# Altium footprint library PcbLib1.PcbLib: 15 footprints
Each footprint in its own frame and in the unit in brackets; x right, y up, seen from the top. Pads: shape width x height; smd on the part's side, far side on the other; paste and mask are expansions set on the pad; w line width, h text height; cw(c..) or ccw(c..) is an arc to the next point about the centre after c.
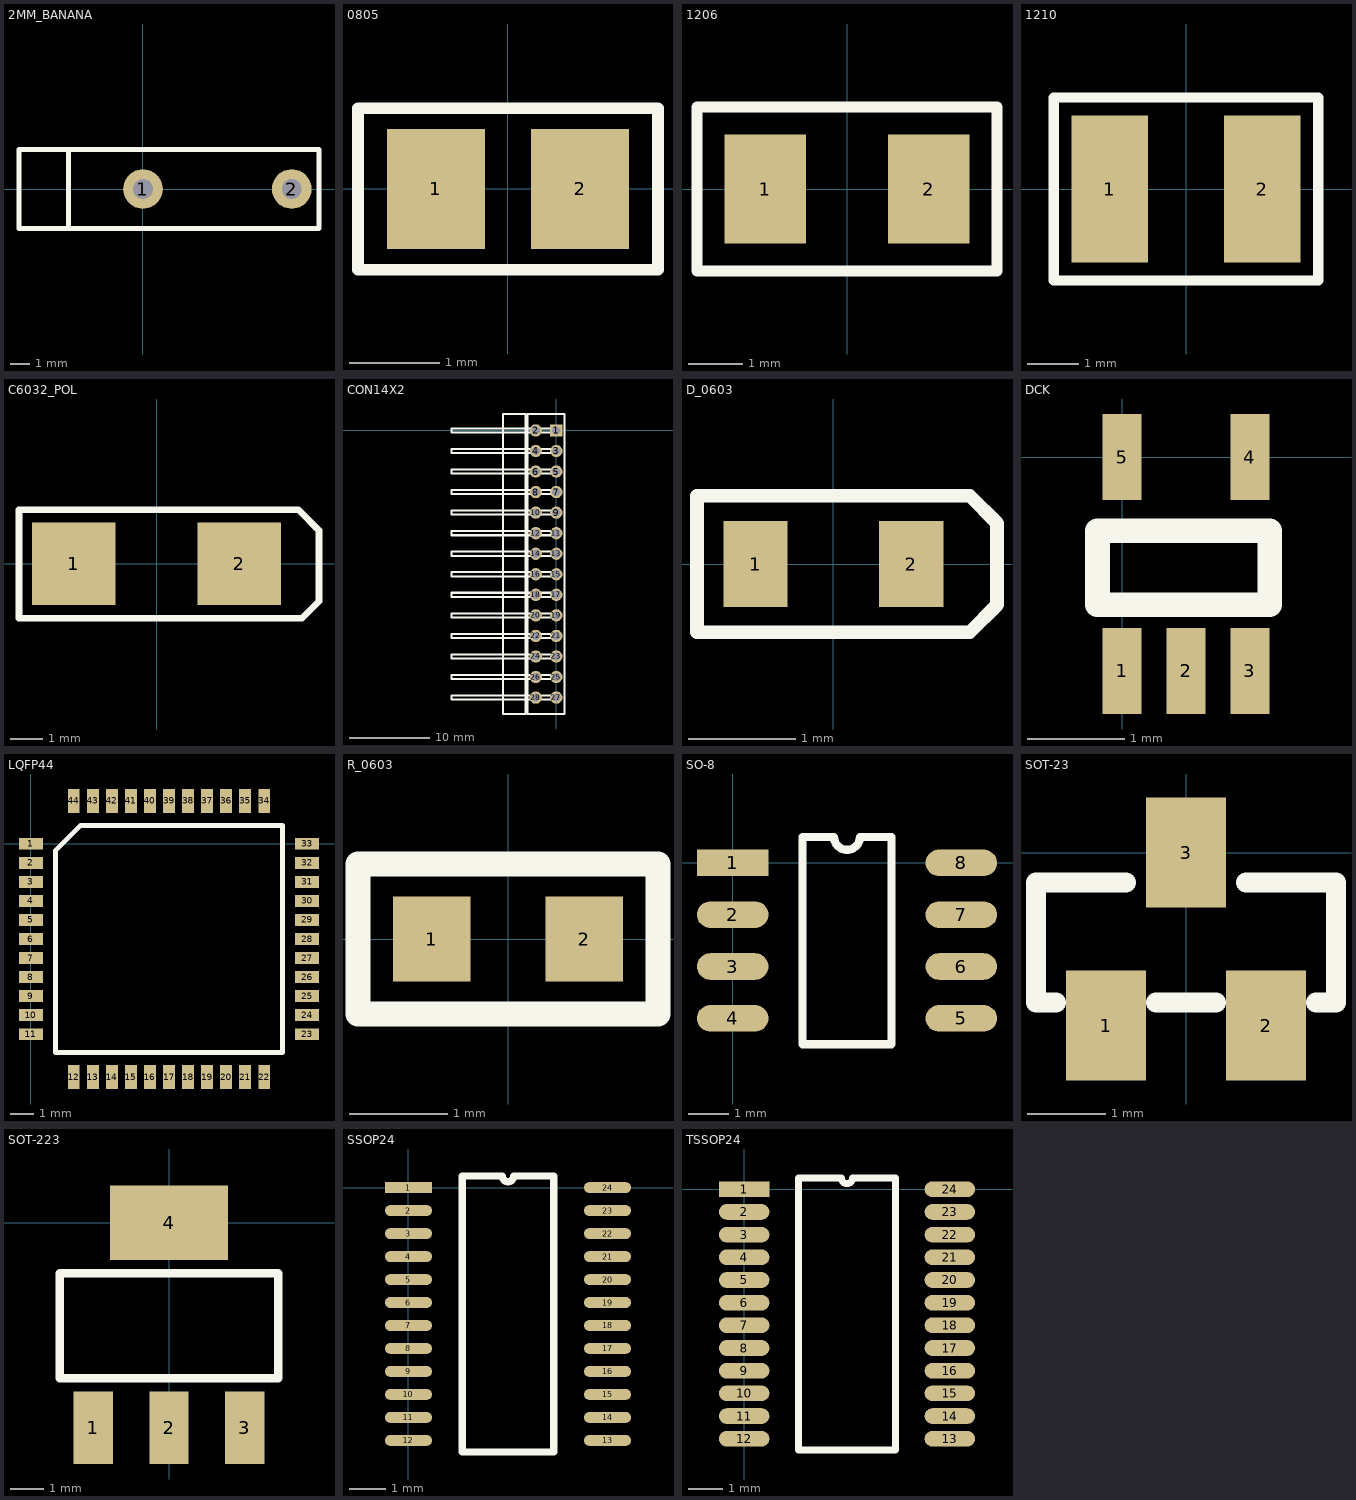
[diagram p0: the footprints below, top view; thin cyan lines are the x and y axes]

## 2MM_BANANA [mil]
pads (2):
  round 80 hole 40: 1(0,0) 2(300,0)
Top Overlay:
  lines w10: -150,-80 -150,80 ; -250,-80 -250,80 355,80 355,-80 -250,-80

## 0805 [mil]
pads (2):
  rect 42.5x52 smd: 1(-31.25,0) 2(31.25,0)
Top Overlay:
  lines w5: -65,-35 65,-35 65,35 -65,35 -65,-35

## 1206 [mm]
pads (2):
  rect 1.5x2 smd: 1(-1.5,0) 2(1.5,0)
Top Overlay:
  lines w0.2: -2.75,-1.5 2.75,-1.5 2.75,1.5 -2.75,1.5 -2.75,0 -2.75,-1.5

## 1210 [mm]
pads (2):
  rect 1.5x2.9 smd: 1(-1.5,0) 2(1.5,0)
Top Overlay:
  lines w0.2: -2.6,-1.8 -2.6,0 -2.6,1.8 2.6,1.8 2.6,-1.8 -2.6,-1.8

## C6032_POL [mm]
pads (2):
  rect 2.55x2.5 smd: 1(-2.525,0) 2(2.525,0)
Top Overlay:
  lines w0.2: -4.191,-1.667 4.429,-1.667 4.953,-1.143 4.953,1.016 4.318,1.651 -4.191,1.651 -4.191,0.351 -4.191,-1.667

## CON14X2 [mil]
pads (28):
  rect 60x60 hole 40: 1(0,0)
  round 60 hole 40: 2(-100,0) 3(0,-100) 4(-100,-100) 5(0,-200) 6(-100,-200) 7(0,-300) 8(-100,-300) 9(0,-400) 10(-100,-400) 11(0,-500) 12(-100,-500) 13(0,-600) 14(-100,-600) 15(0,-700) 16(-100,-700) 17(0,-800) 18(-100,-800) 19(0,-900) 20(-100,-900) 21(0,-1000) 22(-100,-1000) 23(0,-1100) 24(-100,-1100) 25(0,-1200) 26(-100,-1200) 27(0,-1300) 28(-100,-1300)
Top Overlay:
  lines w10: 5,-1290 -510,-1290 -510,-1310 15,-1310 ; 5,-1190 -510,-1190 -510,-1210 15,-1210 ; 5,-1090 -510,-1090 -510,-1110 15,-1110 ; 5,-990 -510,-990 -510,-1010 15,-1010 ; 5,-890 -510,-890 -510,-910 15,-910 ; 5,-790 -510,-790 -510,-810 15,-810 ; 5,-690 -510,-690 -510,-710 15,-710 ; 5,-590 -510,-590 -510,-610 15,-610 ; 5,-490 -510,-490 -510,-510 15,-510 ; 5,-390 -510,-390 -510,-410 15,-410 ; 5,-290 -510,-290 -510,-310 15,-310 ; 5,-190 -510,-190 -510,-210 15,-210 ; 5,-90 -510,-90 -510,-110 15,-110 ; 5,10 -510,10 -510,-10 15,-10 ; -260,-1380 -260,80 -150,80 -150,40 -150,-1380 -260,-1380 ; -140,-1380 -140,80 40,80 40,-1380 -140,-1380

## D_0603 [mm]
pads (2):
  rect 0.6x0.8 smd: 1(-0.725,0) 2(0.725,0)
Top Overlay:
  lines w0.127: -1.27,-0.635 -1.27,0.635 1.27,0.635 1.524,0.381 1.524,-0.381 1.27,-0.635 -1.27,-0.635

## DCK [mil]
pads (5):
  rect 16x35 smd: 1(0,-87) 2(26,-87) 3(52,-87) 4(52,0) 5(0,0)
Top Overlay:
  lines w10: -10,-60 -10,-30 60,-30 60,-60 -10,-60

## LQFP44 [mm]
pads (44):
  rect 1x0.5 smd: 1(0,0) 2(0,-0.8) 3(0,-1.6) 4(0,-2.4) 5(0,-3.2) 6(0,-4) 7(0,-4.8) 8(0,-5.6) 9(0,-6.4) 10(0,-7.2) 11(0,-8) 23(11.6,-8) 24(11.6,-7.2) 25(11.6,-6.4) 26(11.6,-5.6) 27(11.6,-4.8) 28(11.6,-4) 29(11.6,-3.2) 30(11.6,-2.4) 31(11.6,-1.6) 32(11.6,-0.8) 33(11.6,0)
  rect 0.5x1 smd: 12(1.8,-9.8) 13(2.6,-9.8) 14(3.4,-9.8) 15(4.2,-9.8) 16(5,-9.8) 17(5.8,-9.8) 18(6.6,-9.8) 19(7.4,-9.8) 20(8.2,-9.8) 21(9,-9.8) 22(9.8,-9.8) 34(9.8,1.8) 35(9,1.8) 36(8.2,1.8) 37(7.4,1.8) 38(6.6,1.8) 39(5.8,1.8) 40(5,1.8) 41(4.2,1.8) 42(3.4,1.8) 43(2.6,1.8) 44(1.8,1.8)
Top Overlay:
  lines w0.2: 1.035,-8.765 1.035,-0.27 2.07,0.765 10.565,0.765 10.565,-8.765 1.035,-8.765

## R_0603 [mil]
pads (2):
  rect 31x34 smd: 1(-30.5,0) 2(30.5,0)
Top Overlay:
  lines w10: -60,-30 60,-30 60,30 -60,30 -60,-30

## SO-8 [mm]
pads (8):
  rect 1.75x0.65 smd: 1(0,0)
  oval 1.75x0.65 smd: 2(0,-1.27) 3(0,-2.54) 4(0,-3.81) 5(5.6,-3.81) 6(5.6,-2.54) 7(5.6,-1.27) 8(5.6,0)
Top Overlay:
  lines w0.2: 1.71,-4.445 3.89,-4.445 3.89,0.635 3.117,0.635 cw(c2.8,0.635) 2.482,0.635 1.71,0.635 1.71,-4.445

## SOT-23 [mil]
pads (3):
  rect 40x55 smd: 1(-40,-86.5) 2(40,-86.5) 3(0,0)
Top Overlay:
  lines w10: -65,-75 -75,-75 -75,-15 -30,-15 ; -15,-75 15,-75 ; 30,-15 75,-15 75,-75 65,-75

## SOT-223 [mil]
pads (4):
  rect 47x86 smd: 1(-90,-244) 2(0,-244) 3(90,-244)
  rect 140x89 smd: 4(0,0)
Top Overlay:
  lines w10: -130,-185 -130,-60 130,-60 130,-185 -130,-185

## SSOP24 [mm]
pads (24):
  rect 1.3x0.3 smd: 1(0,0)
  oval 1.3x0.3 smd: 2(0,-0.635) 3(0,-1.27) 4(0,-1.905) 5(0,-2.54) 6(0,-3.175) 7(0,-3.81) 8(0,-4.445) 9(0,-5.08) 10(0,-5.715) 11(0,-6.35) 12(0,-6.985) 13(5.5,-6.985) 14(5.5,-6.35) 15(5.5,-5.715) 16(5.5,-5.08) 17(5.5,-4.445) 18(5.5,-3.81) 19(5.5,-3.175) 20(5.5,-2.54) 21(5.5,-1.905) 22(5.5,-1.27) 23(5.5,-0.635) 24(5.5,0)
Top Overlay:
  lines w0.2: 1.485,-7.302 4.015,-7.302 4.015,0.318 2.909,0.318 cw(c2.75,0.318) 2.591,0.318 1.485,0.318 1.485,-7.302

## TSSOP24 [mm]
pads (24):
  rect 1.45x0.45 smd: 1(0,0)
  oval 1.45x0.45 smd: 2(0,-0.65) 3(0,-1.3) 4(0,-1.95) 5(0,-2.6) 6(0,-3.25) 7(0,-3.9) 8(0,-4.55) 9(0,-5.2) 10(0,-5.85) 11(0,-6.5) 12(0,-7.15) 13(5.9,-7.15) 14(5.9,-6.5) 15(5.9,-5.85) 16(5.9,-5.2) 17(5.9,-4.55) 18(5.9,-3.9) 19(5.9,-3.25) 20(5.9,-2.6) 21(5.9,-1.95) 22(5.9,-1.3) 23(5.9,-0.65) 24(5.9,0)
Top Overlay:
  lines w0.2: 1.56,-7.475 1.56,0.325 2.788,0.325 ccw(c2.95,0.325) 3.112,0.325 4.34,0.325 4.34,-7.475 1.56,-7.475